# Altium footprint library Switch.PcbLib: 6 footprints
Each footprint in its own frame and in the unit in brackets; x right, y up, seen from the top. Pads: shape width x height; smd on the part's side, far side on the other; paste and mask are expansions set on the pad; w line width, h text height; cw(c..) or ccw(c..) is an arc to the next point about the centre after c.
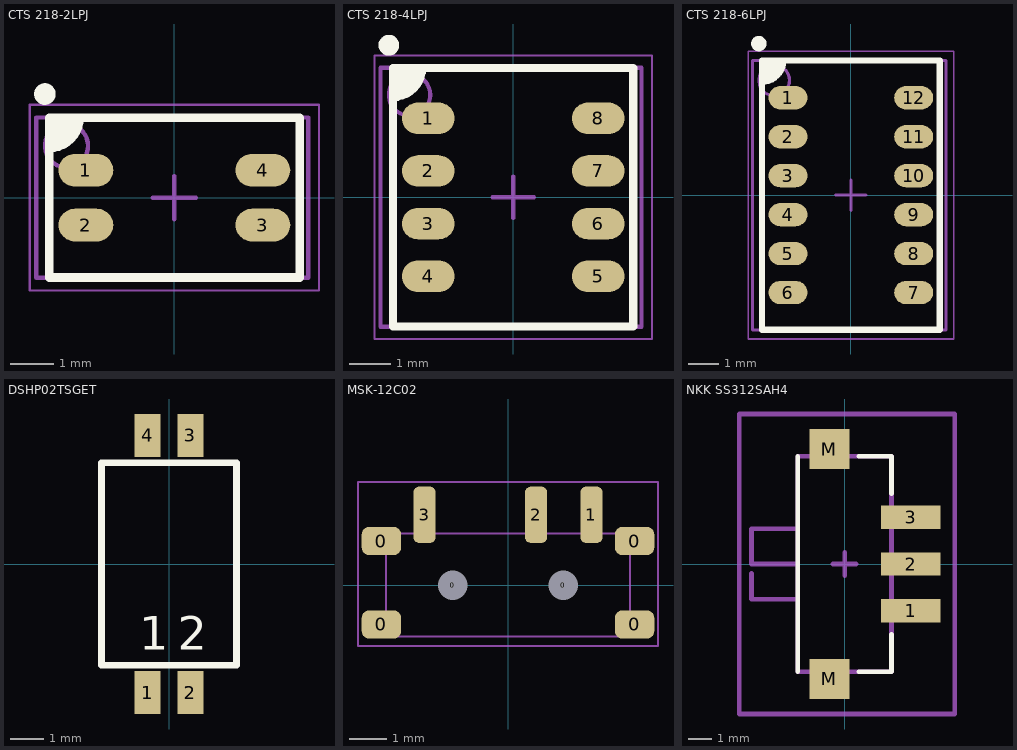
[diagram p0: the footprints below, top view; thin cyan lines are the x and y axes]

## CTS 218-2LPJ [mm] "DIP, 2 POS, Body 3.71x6.05mm, Pitch 1.27mm, IPC Medium Density"
height 2.7
pads (4):
  oval 1.27x0.76 smd: 1(-2.05,0.635) 2(-2.05,-0.635) 3(2.05,-0.635) 4(2.05,0.635)
Top Overlay:
  circle w0.25: c-3,2.4 r0.125
  region: -2.9,1.85 -2.9,1.1 -2.7,1.1 -2.2,1.6 -2.2,1.85
  lines w0.2: -2.9,1.15 ccw(c-2.9,1.85) -2.2,1.85 ; -2.9,-1.85 -2.9,1.85 2.9,1.85 2.9,-1.85 -2.9,-1.85
Mechanical 13:
  circle w0.1: c-2.5,1.2 r0.5
  lines w0.1: -3.2,-1.855 3.1,-1.855 3.1,1.855 -3.2,1.855 -3.2,-1.855
Mechanical 15:
  lines w0.05: -3.35,-2.15 3.35,-2.15 3.35,2.15 -3.35,2.15 -3.35,-2.15
  lines w0.1: -0.5,0 0.5,0 ; 0,-0.5 0,0.5
3D body "CTS-218-2LPSTJ.STEP": height 2.71, standoff 0, extent -3.155,-1.855 3.155,1.855

## CTS 218-4LPJ [mm] "DIP, 6 POS, Body 8.79x6.05mm, Pitch 1.27mm, IPC Medium Density"
height 2.7
pads (8):
  oval 1.27x0.76 smd: 1(-2.05,1.905) 2(-2.05,0.635) 3(-2.05,-0.635) 4(-2.05,-1.905) 5(2.05,-1.905) 6(2.05,-0.635) 7(2.05,0.635) 8(2.05,1.905)
Top Overlay:
  circle w0.25: c-3,3.67 r0.125
  region: -2.9,3.12 -2.9,2.37 -2.7,2.37 -2.2,2.87 -2.2,3.12
  lines w0.2: -2.9,2.42 ccw(c-2.9,3.12) -2.2,3.12 ; -2.9,-3.12 2.9,-3.12 2.9,3.12 -2.9,3.12 -2.9,-3.12
Mechanical 13:
  circle w0.1: c-2.5,2.47 r0.5
  lines w0.1: -3.2,-3.125 -3.2,3.125 3.1,3.125 3.1,-3.125 -3.2,-3.125
Mechanical 15:
  lines w0.05: -3.35,-3.42 -3.35,3.42 3.35,3.42 3.35,-3.42 -3.35,-3.42
  lines w0.1: -0.5,0 0.5,0 ; 0,-0.5 0,0.5
3D body "CTS-218-4LPSTJ.STEP": height 2.71, standoff 0, extent -3.155,-3.125 3.155,3.125

## CTS 218-6LPJ [mm] "DIP, 4 POS, Body 6.25x6.05mm, Pitch 1.27mm, IPC Medium Density"
height 2.7
pads (12):
  oval 1.27x0.76 smd: 1(-2.05,3.175) 2(-2.05,1.905) 3(-2.05,0.635) 4(-2.05,-0.635) 5(-2.05,-1.905) 6(-2.05,-3.175) 7(2.05,-3.175) 8(2.05,-1.905) 9(2.05,-0.635) 10(2.05,0.635) 11(2.05,1.905) 12(2.05,3.175)
Top Overlay:
  circle w0.25: c-3,4.94 r0.125
  region: -2.9,4.39 -2.9,3.64 -2.7,3.64 -2.2,4.14 -2.2,4.39
  lines w0.2: -2.9,3.69 ccw(c-2.9,4.39) -2.2,4.39 ; -2.9,-4.39 -2.9,4.39 2.9,4.39 2.9,-4.39 -2.9,-4.39
Mechanical 13:
  circle w0.1: c-2.5,3.74 r0.5
  lines w0.1: -3.2,-4.395 3.1,-4.395 3.1,4.395 -3.2,4.395 -3.2,-4.395
Mechanical 15:
  lines w0.05: -3.35,-4.69 3.35,-4.69 3.35,4.69 -3.35,4.69 -3.35,-4.69
  lines w0.1: -0.5,0 0.5,0 ; 0,-0.5 0,0.5
3D body "CTS-218-6LPSTJ.STEP": height 2.71, standoff 0, extent -3.155,-4.395 3.155,4.395

## DSHP02TSGET [mm]
pads (4):
  rect 0.76x1.27 smd: 1(-0.635,-3.81) 2(0.635,-3.81) 3(0.635,3.81) 4(-0.635,3.81)
Top Overlay:
  lines w0.2: -2,-3 -2,3 2,3 2,-3 -2,-3
  text "2" at 0.254,-2.54 h1
  text "1" at -0.889,-2.54 h1
3D body "SW_1571983-3.step": height 2.31, standoff 0, extent -1.83,-4.065 1.83,4.065

## MSK-12C02 [mil]
pads (9):
  rrect50% 42x30 smd: 0(-135,-42) 0(-135,47) 0(135,-42) 0(135,47)
  round 10 hole 31.5: 0(-59.06,0) 0(59.06,0)
  rrect50% 23.62x60 smd: 1(89.02,75) 2(30,75) 3(-89.02,75)
Mechanical 13:
  lines w2: -130,-55 -130,55 130,55 130,-55 -130,-55
Mechanical 14:
  lines w2: -160,-65 -160,110 160,110 160,-65 -160,-65
  text ".Designator" at -40,-5 h100
3D body "User Library-MSS3_slide_switch_v2.STEP": height 55.12, standoff -19.68, extent -152.24,-110.67 150.91,86.18

## NKK SS312SAH4 [mm]
height 2.9
pads (5):
  rect 2.55x1 smd: 1(2.825,-2) 2(2.825,0) 3(2.825,2)
  rect 1.7x1.7 smd: M(-0.65,-4.9) M(-0.65,4.9)
Top Overlay:
  lines w0.2: -2,-4.6 -2,4.6 ; 0.6,-4.6 2,-4.6 2,-3 ; 0.6,4.6 2,4.6 2,3
Mechanical 1:
  lines w0.2: -3.976,-0.4 -3.976,-1.5 -2,-1.5 ; -2,0 -3.976,0 -3.976,1.5 -2,1.5 ; -2,-4.6 -2,4.6 2,4.6 2,-4.6 -2,-4.6
Mechanical 15:
  lines w0.2: -0.5,0 0.5,0 ; 0,-0.5 0,0.5 ; -4.5,-6.4 -4.5,6.4 4.7,6.4 4.7,-6.4 -4.5,-6.4
3D body "NKK SS312SAH4.STEP": height 2.9, standoff -0.15, extent -3.976,-5.245 3.416,5.245